# EAGLE library part MCHC908QT2 (library micro-motorola)
MCHC908 Series
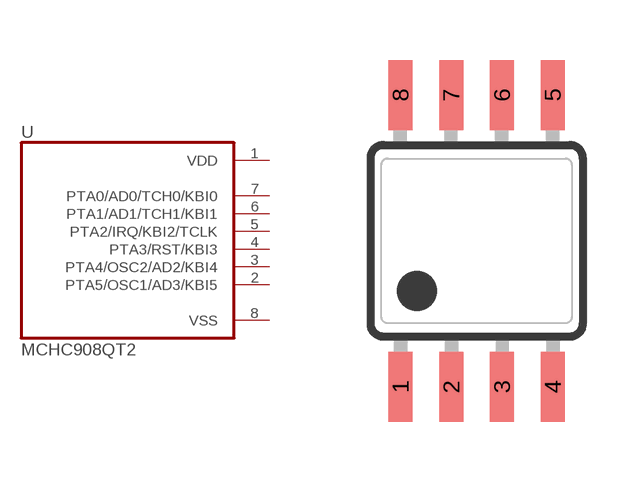
[diagram p81: symbol with the pads of MFP08; footprint MFP08]

Designator prefix U

## MCHC908QT2  [MFP08]
1  VDD
2  PTA5/OSC1/AD3/KBI5  in
3  PTA4/OSC2/AD2/KBI4  in
4  PTA3/RST/KBI3  in
5  PTA2/IRQ/KBI2/TCLK
6  PTA1/AD1/TCH1/KBI1
7  PTA0/AD0/TCH0/KBI0
8  VSS  out

## Footprint MFP08 (pad centres in mm)
MFP 8
smd 0.6 x 1.75: 1 -1.905,-3.651; 2 -0.635,-3.651; 3 0.635,-3.651; 4 1.905,-3.651; 5 1.905,3.651; 6 0.635,3.651; 7 -0.635,3.651; 8 -1.905,3.651